# Altium footprint library MyPcbLib.PcbLib: 65 footprints (part 2 of 5)
Each footprint in its own frame and in the unit in brackets; x right, y up, seen from the top. Pads: shape width x height; smd on the part's side, far side on the other; paste and mask are expansions set on the pad; w line width, h text height; cw(c..) or ccw(c..) is an arc to the next point about the centre after c.
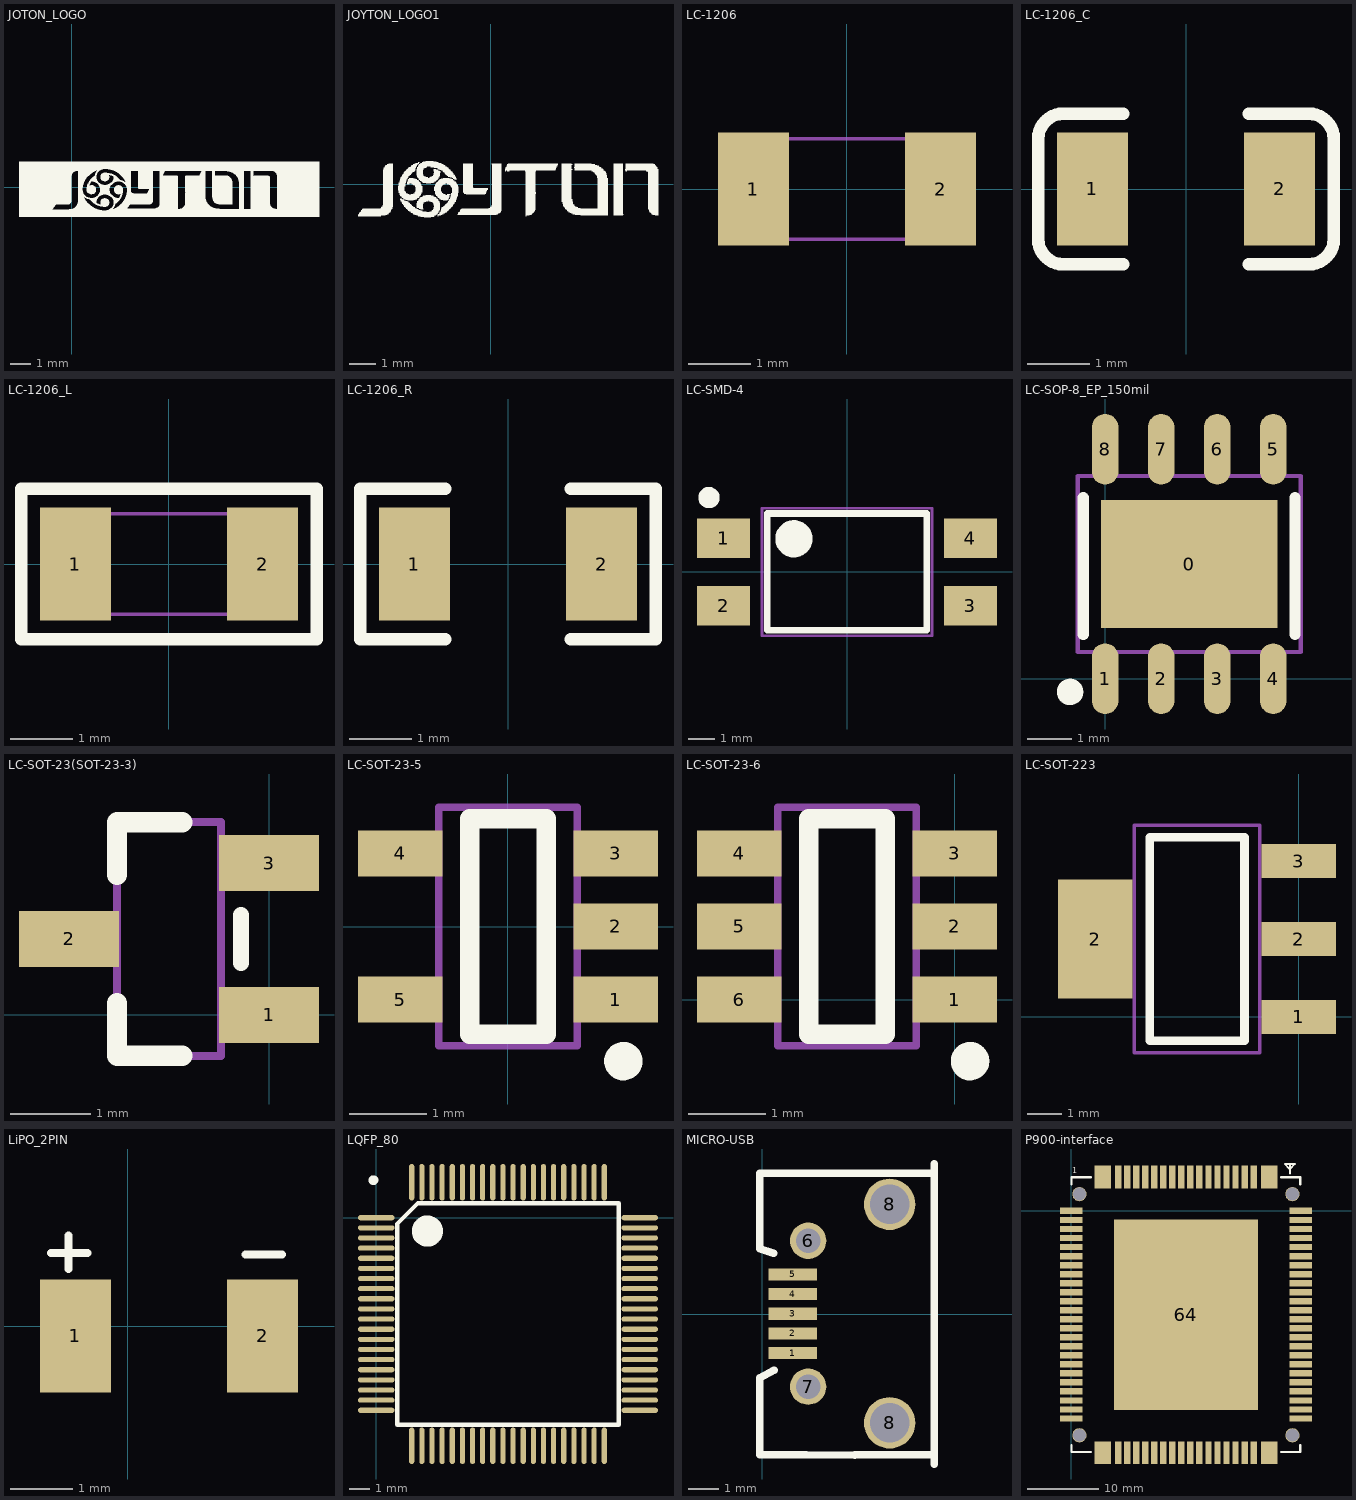
[diagram p1: the footprints below, top view; thin cyan lines are the x and y axes]

## JOTON_LOGO [mm]
Top Overlay:
  drawing of 975 lines, arcs and shapes, not listed

## JOYTON_LOGO1 [mm]
Top Overlay:
  drawing of 868 lines, arcs and shapes, not listed

## LC-1206 [mm]
pads (2):
  rect 1.13x1.8 smd: 1(-1.49,0) 2(1.49,0)
Mechanical 13:
  lines w0.05: -1.6,-0.8 -1.6,0.8 1.6,0.8 1.6,-0.8 -1.6,-0.8

## LC-1206_C [mm]
pads (2):
  rect 1.13x1.8 smd: 1(-1.49,0) 2(1.49,0)
Top Overlay:
  lines w0.2: -1,-1.2 -1.955,-1.2 cw(c-1.955,-0.8) -2.355,-0.8 -2.355,0.8 cw(c-1.955,0.8) -1.955,1.2 -1,1.2 ; 1,-1.2 1.955,-1.2 ccw(c1.955,-0.8) 2.355,-0.8 2.355,0.8 ccw(c1.955,0.8) 1.955,1.2 1,1.2
3D body "C1206.STEP": height 1, standoff 0, extent -1.602,-0.813 1.598,0.787

## LC-1206_L [mm]
pads (2):
  rect 1.13x1.8 smd: 1(-1.49,0) 2(1.49,0)
Top Overlay:
  lines w0.2: -2.355,-1.2 2.355,-1.2 2.355,1.2 -2.355,1.2 -2.355,-1.2
Mechanical 13:
  lines w0.05: -1.6,-0.8 1.6,-0.8 1.6,0.8 -1.6,0.8 -1.6,-0.8

## LC-1206_R [mm]
pads (2):
  rect 1.13x1.8 smd: 1(-1.49,0) 2(1.49,0)
Top Overlay:
  lines w0.2: -1,-1.2 -2.355,-1.2 -2.355,1.2 -1,1.2 ; 1,-1.2 2.355,-1.2 2.355,1.2 1,1.2
3D body "User Library-RES_3216-1206.STEP": height 0.85, standoff 0, extent -1.7,-0.864 1.65,0.866

## LC-SMD-4 [mm]
pads (4):
  rect 2x1.5 smd: 1(-4.65,1.27) 2(-4.65,-1.27) 3(4.65,-1.27) 4(4.65,1.27)
Top Overlay:
  circle w0.7: c-2,1.25 r0.35
  circle w0.4: c-5.2,2.8 r0.2
  lines w0.254: -3,-2.2 3,-2.2 3,2.2 -3,2.2 -3,-2.2
Mechanical 13:
  lines w0.1: -3.2,-2.4 -3.2,2.4 3.2,2.4 3.2,-2.4 -3.2,-2.4
3D body "User Library-DIP4_opto_iso.STEP": height 3.9, standoff 0, extent -5.015,-2.416 5.015,2.416

## LC-SOP-8_EP_150mil [mm] "嘉立创商城库"
pads (9):
  rect 4x2.9 smd: 0(1.905,2.6)
  oval 0.6x1.6 smd: 1(0,0) 2(1.27,0) 3(2.54,0) 4(3.81,0) 5(3.81,5.2) 6(2.54,5.2) 7(1.27,5.2) 8(0,5.2)
Top Overlay:
  circle w0.3: c-0.795,-0.3 r0.15
  lines w0.254: -0.495,1 -0.495,4.1 ; 4.305,1 4.305,4.1
Mechanical 13:
  lines w0.1: -0.62,0.605 -0.62,4.595 4.43,4.595 4.43,0.605 -0.62,0.605

## LC-SOT-23(SOT-23-3) [mm]
pads (3):
  rect 1.25x0.7 smd: 1(0,0) 2(-2.5,0.95) 3(0,1.9)
Top Overlay:
  lines w0.2: -0.35,0.65 -0.35,1.25
  lines w0.254: -1.9,0.15 -1.9,-0.51 -1.085,-0.51 ; -1.085,2.41 -1.9,2.41 ; -1.9,1.75 -1.9,2.41 ; -1.9,1.75 -1.9,2.41 ; -1.9,1.75 -1.9,2.41
Mechanical 13:
  lines w0.1: -1.9,-0.51 -1.9,2.41 ; -1.9,-0.51 -0.6,-0.51 ; -1.9,-0.51 -0.6,-0.51 ; -1.9,-0.51 -1.9,2.41 ; -1.9,-0.51 -0.6,-0.51 ; -1.9,-0.51 -1.9,2.41 ; -1.9,2.41 -0.6,2.41 ; -1.9,2.41 -0.6,2.41 ; -1.9,2.41 -0.6,2.41 ; -0.6,-0.51 -0.6,2.41 ; -0.6,-0.51 -0.6,2.41 ; -0.6,-0.51 -0.6,2.41
3D body "SOT-23.step": height 1.3, standoff 0, extent -2.75,-0.55 0.25,2.45

## LC-SOT-23-5 [mm]
pads (5):
  rect 1.1x0.6 smd: 1(1.4,-0.95) 2(1.4,0) 3(1.4,0.95) 4(-1.4,0.95) 5(-1.4,-0.95)
Top Overlay:
  circle w0.25: c1.5,-1.75 r0.125
  lines w0.254: -0.5,-1.4 0.5,-1.4 0.5,1.4 -0.5,1.4 -0.5,-1.4
Mechanical 13:
  lines w0.1: -0.9,-1.55 -0.9,1.55 0.9,1.55 0.9,-1.55 -0.9,-1.55

## LC-SOT-23-6 [mm]
pads (6):
  rect 1.1x0.6 smd: 1(0,0) 2(0,0.95) 3(0,1.9) 4(-2.8,1.9) 5(-2.8,0.95) 6(-2.8,0)
Top Overlay:
  circle w0.25: c0.2,-0.8 r0.125
  lines w0.254: -1.9,-0.45 -0.9,-0.45 -0.9,2.35 -1.9,2.35 -1.9,-0.45
Mechanical 13:
  lines w0.1: -2.3,-0.6 -0.5,-0.6 -0.5,2.5 -2.3,2.5 -2.3,-0.6

## LC-SOT-223 [mm]
pads (4):
  rect 2.2x1 smd: 1(0,0) 2(0,2.3) 3(0,4.6)
  rect 2.2x3.5 smd: 2(-6,2.3)
Top Overlay:
  lines w0.254: -4.4,-0.7 -4.4,5.3 -1.6,5.3 -1.6,-0.7 -4.4,-0.7
Mechanical 13:
  lines w0.1: -4.85,-1.05 -1.15,-1.05 -1.15,5.65 -4.85,5.65 -4.85,-1.05
3D body "TO-223.STEP": height 1.64, standoff -0.04, extent -6.49,-0.942 0.49,5.543

## LiPO_2PIN [mm]
pads (2):
  rect 1.13x1.8 smd: 1(-0.83,-0.152) 2(2.15,-0.152)
Top Overlay:
  lines w0.127: -1.219,1.168 -0.635,1.168 ; -0.94,0.914 -0.94,1.448 ; 1.88,1.143 2.464,1.143

## LQFP_80 [mm]
pads (80):
  oval 1.8x0.254 smd: 1(0,0) 2(0,-0.5) 3(0,-1) 4(0,-1.5) 5(0,-2) 6(0,-2.5) 7(0,-3) 8(0,-3.5) 9(0,-4) 10(0,-4.5) 11(0,-5) 12(0,-5.5) 13(0,-6) 14(0,-6.5) 15(0,-7) 16(0,-7.5) 17(0,-8) 18(0,-8.5) 19(0,-9) 20(0,-9.5) 41(13,-9.5) 42(13,-9) 43(13,-8.5) 44(13,-8) 45(13,-7.5) 46(13,-7) 47(13,-6.5) 48(13,-6) 49(13,-5.5) 50(13,-5) 51(13,-4.5) 52(13,-4) 53(13,-3.5) 54(13,-3) 55(13,-2.5) 56(13,-2) 57(13,-1.5) 58(13,-1) 59(13,-0.5) 60(13,0)
  oval 0.254x1.8 smd: 21(1.75,-11.25) 22(2.25,-11.25) 23(2.75,-11.25) 24(3.25,-11.25) 25(3.75,-11.25) 26(4.25,-11.25) 27(4.75,-11.25) 28(5.25,-11.25) 29(5.75,-11.25) 30(6.25,-11.25) 31(6.75,-11.25) 32(7.25,-11.25) 33(7.75,-11.25) 34(8.25,-11.25) 35(8.75,-11.25) 36(9.25,-11.25) 37(9.75,-11.25) 38(10.25,-11.25) 39(10.75,-11.25) 40(11.25,-11.25) 61(11.25,1.75) 62(10.75,1.75) 63(10.25,1.75) 64(9.75,1.75) 65(9.25,1.75) 66(8.75,1.75) 67(8.25,1.75) 68(7.75,1.75) 69(7.25,1.75) 70(6.75,1.75) 71(6.25,1.75) 72(5.75,1.75) 73(5.25,1.75) 74(4.75,1.75) 75(4.25,1.75) 76(3.75,1.75) 77(3.25,1.75) 78(2.75,1.75) 79(2.25,1.75) 80(1.75,1.75)
Top Overlay:
  circle w1: c2.524,-0.66 r0.27
  circle w0.254: c-0.139,1.854 r0.114
  lines w0.2: 1.035,-10.215 1.035,-0.32 2.07,0.715 11.965,0.715 11.965,-10.215 1.035,-10.215
3D body: height 1.6, standoff 0.15, extent 0.178,-10.871 12.725,1.676

## MICRO-USB [mm]
pads (9):
  rect 1.6x0.4 smd: 1(1.016,-1.291) 2(1.016,-0.641) 3(1.016,0.009) 4(1.016,0.659) 5(1.016,1.309)
  round 1.2 hole 0.8: 6(1.524,2.419) 7(1.524,-2.4)
  round 1.7 hole 1.3: 8(4.216,-3.594) 8(4.216,3.62)
Top Overlay:
  lines w0.254: -0.076,-4.013 -0.076,-2.235 -0.076,-2.108 0.406,-1.854 ; -0.076,-3.937 -0.076,-4.638 3.058,-4.663 3.073,-4.648 5.69,-4.648 ; -0.076,3.683 -0.076,2.159 0.381,2.007 ; -0.076,3.708 -0.076,4.648 2.083,4.648 5.69,4.648 ; 5.69,-4.953 5.69,-4.394 5.69,-2.565 5.69,0.013 ; 5.69,-0.025 5.69,4.953

## P900-interface [mm]
pads (89):
  rect 3.2x0.9 smd: 1(0,0) 2(0,-1.27) 3(0,-2.54) 4(0,-3.81) 5(0,-5.08) 6(0,-6.35) 7(0,-7.62) 8(0,-8.89) 9(0,-10.16) 10(0,-11.43) 11(0,-12.7) 12(0,-13.97) 13(0,-15.24) 14(0,-16.51) 15(0,-17.78) 16(0,-19.05) 17(0,-20.32) 18(0,-21.59) 19(0,-22.86) 20(0,-24.13) 21(0,-25.4) 22(0,-26.67) 23(0,-27.94) 24(0,-29.21) 41(32.281,-29.21) 42(32.281,-27.94) 43(32.281,-26.67) 44(32.281,-25.4) 45(32.281,-24.13) 46(32.281,-22.86) 47(32.281,-21.59) 48(32.281,-20.32) 49(32.281,-19.05) 50(32.281,-17.78) 51(32.281,-16.51) 52(32.281,-15.24) 53(32.281,-13.97) 54(32.281,-12.7) 55(32.281,-11.43) 56(32.281,-10.16) 57(32.281,-8.89) 58(32.281,-7.62) 59(32.281,-6.35) 60(32.281,-5.08) 61(32.281,-3.81) 62(32.281,-2.54) 63(32.281,-1.27) 64(32.281,0)
  rect 0.9x3.2 smd: 1(16.763,4.774) 25(6.603,-34.01) 26(7.873,-34.01) 27(9.143,-34.01) 28(10.413,-34.01) 29(11.683,-34.01) 30(12.953,-34.01) 31(14.223,-34.01) 32(15.493,-34.01) 33(16.763,-34.01) 34(18.033,-34.01) 35(19.303,-34.01) 36(20.573,-34.01) 37(21.843,-34.01) 38(23.113,-34.01) 39(24.383,-34.01) 40(25.653,-34.01) 65(25.653,4.774) 66(24.383,4.774) 67(23.113,4.774) 68(21.843,4.774) 69(20.573,4.774) 70(19.303,4.774) 71(18.033,4.774) 73(15.493,4.774) 74(14.223,4.774) 75(12.953,4.774) 76(11.683,4.774) 77(10.413,4.775) 78(9.143,4.774) 79(7.873,4.775) 80(6.603,4.775)
  rect 20.3x26.8 smd: 64(16.128,-14.58)
  round 2 hole 1.8: ""(1.141,-31.572) ""(1.142,2.362) ""(31.114,2.362) ""(31.114,-31.572)
  rect 2.3x3.2 smd: ""(4.419,-34.011) ""(4.419,4.775) ""(27.837,-34.011) ""(27.837,4.775)
Top Overlay:
  lines w0.254: 30.758,5.258 30.758,6.604 ; 30.758,6.604 30.047,6.604 30.758,5.893 31.47,6.604 30.758,6.604
  lines w0.305: 0.03,3.729 0.03,4.739 2.762,4.739 ; 0.036,-32.924 0.036,-33.934 2.768,-33.934 ; 29.488,-33.934 32.22,-33.934 32.22,-32.924 ; 29.488,4.75 32.22,4.75 32.22,3.74
  text "1" at 0.101,5.309 h0.81
Mechanical 4:
  circle w0.127: c31.112,2.365 r0.85
  circle w0.127: c1.144,2.365 r0.85
3D body "零件": height 5.9, standoff -1.2, extent -0.458,-34.442 32.742,5.258